# EAGLE library part SI7288 (library zz-upenn)
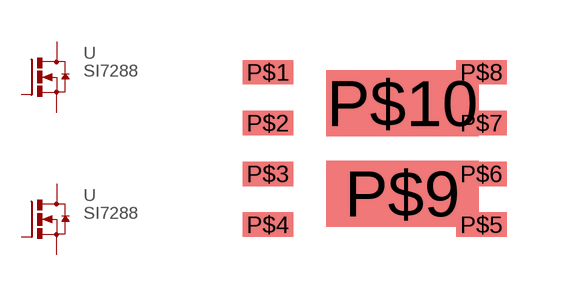
[diagram p28: symbol with the pads of POWERPAK-SO8; footprint POWERPAK-SO8]

Designator prefix -

## SI7288  [POWERPAK-SO8]
P$1  S1  pas
P$2  G1  pas
P$3  S2  pas
P$4  G2  pas
P$5  D2  pas
P$6  D2  pas
P$7  D1  pas
P$8  D1  pas
P$9  D2  pas
P$10  D1  pas

## Footprint POWERPAK-SO8 (pad centres in mm)
smd 1.27 x 0.61: P$1 -2.67,1.905; P$2 -2.67,0.635; P$3 -2.67,-0.635; P$4 -2.67,-1.905; P$5 2.67,-1.905; P$6 2.67,-0.635; P$7 2.67,0.635; P$8 2.67,1.905
smd 3.81 x 1.65: P$9 0.69,-1.13; P$10 0.69,1.13